# EAGLE library part LTC3717-1 (library PowerProducts)
Wide Operating Range, No Rsense Step-Down Controller for DDR/QDR Memory Termination
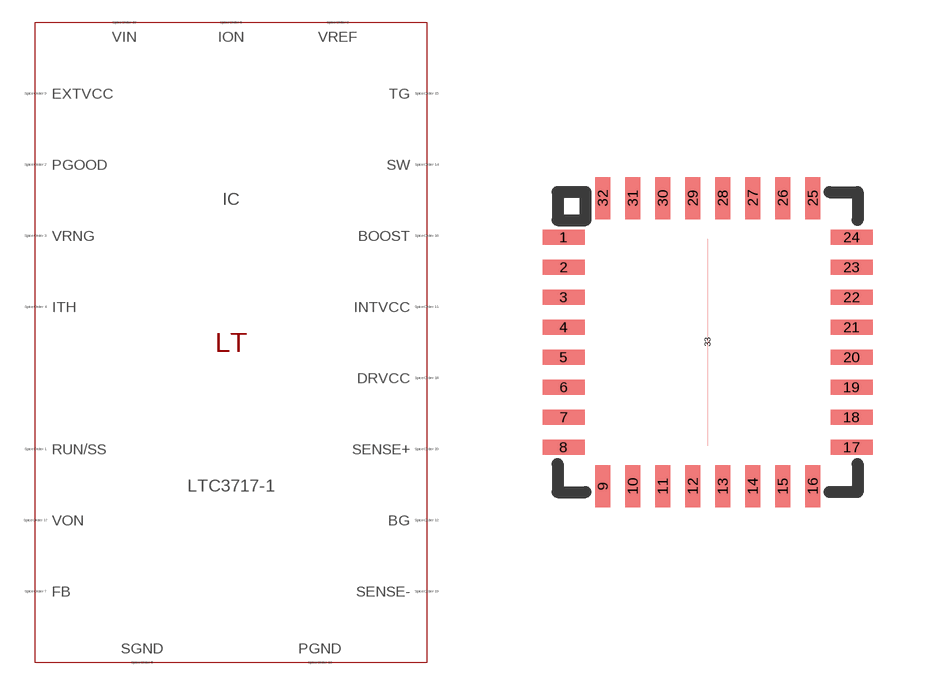
[diagram p293: symbol with the pads of QFN32(UH); footprint QFN32(UH)]

Designator prefix IC

## LTC3717-1 (SPICEMODEL: LTC3717-1.sub; SPICEPREFIX: X; VALUE2: LTC3717-1)  [QFN32(UH)]
1  VON  pas
2  PGOOD  pas
3  VRNG  pas
4  ITH  pas
5  SGND  pas
6  ION  pas
7  FB  pas
10  VREF  pas
15  EXTVCC  pas
16  VIN  pas
17  INTVCC  pas
18  DRVCC  pas
19  BG  pas
20  PGND  pas
21  SENSE-  pas
23  SENSE+  pas
24  SW  pas
27  TG  pas
28  BOOST  pas
31  RUN/SS  pas
33  SGND  pas

## Footprint QFN32(UH) (pad centres in mm)
Package generated from: QFN32(UH).asc (!PADS-POWERPCB-V5.0-BASIC! DESIGN DATABASE ASCII FILE 1.0) with :import-pads-powerpcb-v5.ulp Version 1.0.1 at 04.10.2012 14:11:25
smd 1.05 x 0.375: 1 -3.6,2.625; 2 -3.6,1.875; 3 -3.6,1.125; 4 -3.6,0.375; 5 -3.6,-0.375; 6 -3.6,-1.125; 7 -3.6,-1.875; 8 -3.6,-2.625; 17 3.6,-2.625; 18 3.6,-1.875; 19 3.6,-1.125; 20 3.6,-0.375; 21 3.6,0.375; 22 3.6,1.125; 23 3.6,1.875; 24 3.6,2.625
smd 0.375 x 1.05: 9 -2.625,-3.6; 10 -1.875,-3.6; 11 -1.125,-3.6; 12 -0.375,-3.6; 13 0.375,-3.6; 14 1.125,-3.6; 15 1.875,-3.6; 16 2.625,-3.6; 25 2.625,3.6; 26 1.875,3.6; 27 1.125,3.6; 28 0.375,3.6; 29 -0.375,3.6; 30 -1.125,3.6; 31 -1.875,3.6; 32 -2.625,3.6
smd 0 x 5.175: 33 0,0